# Altium footprint library Microchip MCP2562.PcbLib: 1 footprints
Each footprint in its own frame and in the unit in brackets; x right, y up, seen from the top. Pads: shape width x height; smd on the part's side, far side on the other; paste and mask are expansions set on the pad; w line width, h text height; cw(c..) or ccw(c..) is an arc to the next point about the centre after c.
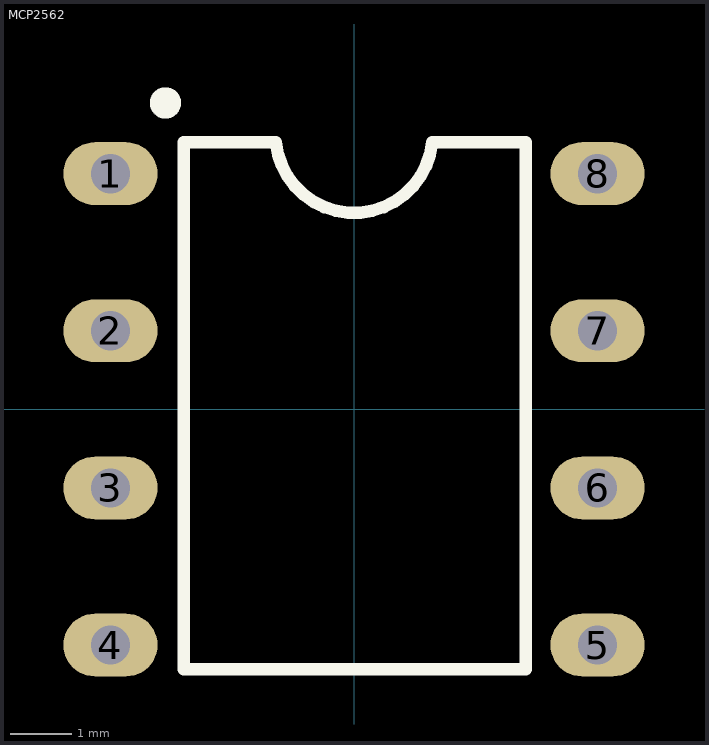
[diagram p0: the footprint, top view; thin cyan lines are the x and y axes]

## MCP2562 [mil]
pads (8):
  oval 60x40 hole 25: 1(-155,150) 2(-155,50) 3(-155,-50) 4(-155,-150) 5(155,-150) 6(155,-50) 7(155,50) 8(155,150)
Top Overlay:
  circle w10: c-120,195 r5
  lines w7.87: -49.79,170 -108.27,170 -108.27,-165.35 109.25,-165.35 109.25,170.02 49.75,170.02 cw(c0,175) -49.75,170
3D body: height 210, standoff 15, extent -115,-170 115,170.02